# EAGLE library part ACS71240LLCBTR-020U5 (library ACS71240LLCBTR-020U5)
Board Mount Current Sensors CURRENT SENSOR IC WITH COMMON MODE REJECTION AND OVERCURRENT FAULT Source: Datasheet <https://www.mouser.de/datasheet/2/1115/ACS71240_Datasheet-3079675.pdf>
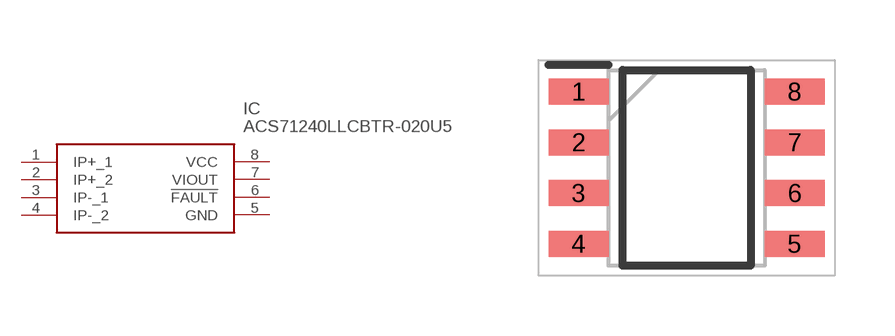
[diagram p0: symbol with the pads of SOIC127P600X175-8N; footprint SOIC127P600X175-8N]

Designator prefix IC

## ACS71240LLCBTR-020U5 (Description: Board Mount Current Sensors CURRENT SENSOR IC WITH COMMON MODE REJECTION AND OVERCURRENT FAULT; Height: 1.75mm; Manufacturer_Name: Allegro Microsystems; Manufacturer_Part_Number: ACS71240LLCBTR-020U5; Mouser_Part_Number: 250-S71240LLCBTR020U; Mouser_Price-Stock: https://www.mouser.co.uk/ProductDetail/Allegro-MicroSystems/ACS71240LLCBTR-020U5?qs=rQFj71Wb1eXatIJDjqEsyg%3D%3D)  [SOIC127P600X175-8N]
1  IP+_1
2  IP+_2
3  IP-_1
4  IP-_2
5  GND
6  !FAULT
7  VIOUT
8  VCC

## Footprint SOIC127P600X175-8N (pad centres in mm)
ACS71240LLCBTR-020U5
smd 1.5 x 0.65: 1 -2.7,1.905; 2 -2.7,0.635; 3 -2.7,-0.635; 4 -2.7,-1.905; 5 2.7,-1.905; 6 2.7,-0.635; 7 2.7,0.635; 8 2.7,1.905